# EAGLE library part MASTER_CHIP (library MCE_Modulos)
Plantilla base para PIC-TRAINER
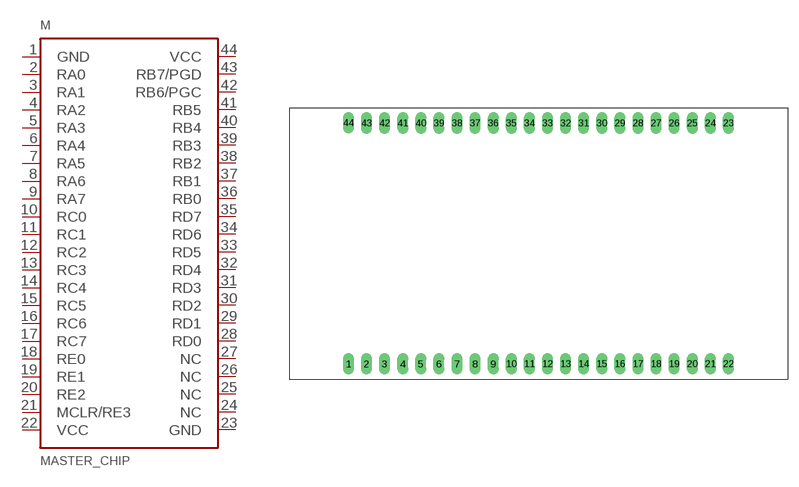
[diagram p1: symbol with the pads of MASTER_CHIP; footprint MASTER_CHIP]

Designator prefix M

## MASTER_CHIP  [MASTER_CHIP]
1  GND
2  RA0
3  RA1
4  RA2
5  RA3
6  RA4
7  RA5
8  RA6
9  RA7
10  RC0
11  RC1
12  RC2
13  RC3
14  RC4
15  RC5
16  RC6
17  RC7
18  RE0
19  RE1
20  RE2
21  MCLR/RE3
22  VCC
23  GND
24  NC
25  NC
26  NC
27  NC
28  RD0
29  RD1
30  RD2
31  RD3
32  RD4
33  RD5
34  RD6
35  RD7
36  RB0
37  RB1
38  RB2
39  RB3
40  RB4
41  RB5
42  RB6/PGC
43  RB7/PGD
44  VCC

## Footprint MASTER_CHIP (pad centres in mm)
Plantilla base para PIC-TRAINER v2.0
drill 1.016 long: 1 -26.67,-16.9; 2 -24.13,-16.9; 3 -21.59,-16.9; 4 -19.05,-16.9; 5 -16.51,-16.9; 6 -13.97,-16.9; 7 -11.43,-16.9; 8 -8.89,-16.9; 9 -6.35,-16.9; 10 -3.81,-16.9; 11 -1.27,-16.9; 12 1.27,-16.9; 13 3.81,-16.9; 14 6.35,-16.9; 15 8.89,-16.9; 16 11.43,-16.9; 17 13.97,-16.9; 18 16.51,-16.9; 19 19.05,-16.9; 20 21.59,-16.9; 21 24.13,-16.9; 22 26.67,-16.9; 23 26.67,16.9; 24 24.13,16.9; 25 21.59,16.9; 26 19.05,16.9; 27 16.51,16.9; 28 13.97,16.9; 29 11.43,16.9; 30 8.89,16.9; 31 6.35,16.9; 32 3.81,16.9; 33 1.27,16.9; 34 -1.27,16.9; 35 -3.81,16.9; 36 -6.35,16.9; 37 -8.89,16.9; 38 -11.43,16.9; 39 -13.97,16.9; 40 -16.51,16.9; 41 -19.05,16.9; 42 -21.59,16.9; 43 -24.13,16.9; 44 -26.67,16.943